# Altium schematic symbol library 1C20C0G220J050B.SchLib: 1 symbol
Pins are listed as number, name and electrical type; pins without a type are passive.

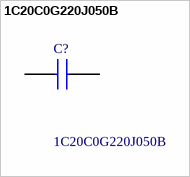
[diagram p0: symbol 1C20C0G220J050B]

## 1C20C0G220J050B
designator C?
22pF +/-5% 50V Ceramic Capacitor C0G, NP0 Radial; Manufacturer_Name: Vishay; Geometry.Height: 6.35mm; Mouser Part Number: 75-1C20C0G220J050B; Mouser Price/Stock: https://www.mouser.co.uk/ProductDetail/Vishay-Sprague/1C20C0G220J050B?qs=So2q653Ab4nrWddw6vx7vg%3D%3D; Manufacturer_Part_Number: 1C20C0G220J050B; Datasheet Link: https://media.digikey.com/pdf/Data%20Sheets/BC%20Components%20PDFs/1C-9C_Series_Rev_Sep_2015.pdf
footprint 1C20C0G220J050B
pins: 1, 2